# EAGLE library part SIM800L (library library)
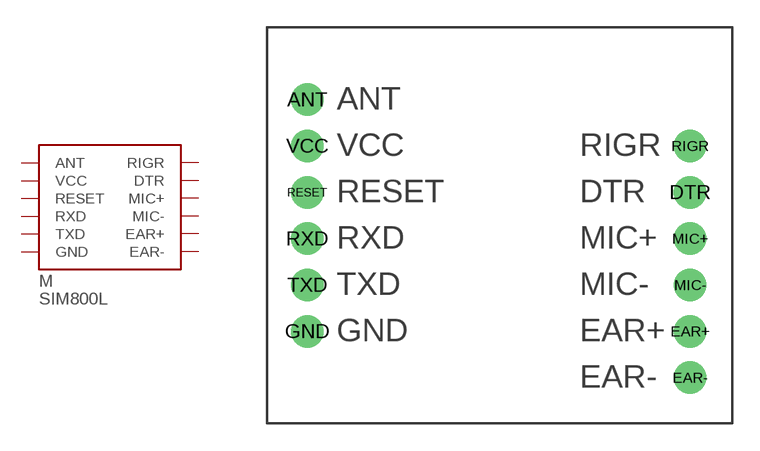
[diagram p0: symbol with the pads of SIM800L; footprint SIM800L]

Designator prefix M

## SIM800L  [SIM800L]
ANT  ANT
DTR  DTR
EAR+  EAR+
EAR-  EAR-
GND  GND
MIC+  MIC+
MIC-  MIC-
RESET  RESET
RIGR  RIGR
RXD  RXD
TXD  TXD
VCC  VCC

## Footprint SIM800L (pad centres in mm)
drill 0.8 pad 1.778: ANT -10.5,7.54; DTR 10.5,2.46; EAR+ 10.5,-5.16; EAR- 10.5,-7.7; GND -10.5,-5.16; MIC+ 10.5,-0.08; MIC- 10.5,-2.62; RESET -10.5,2.46; RIGR 10.5,5; RXD -10.5,-0.08; TXD -10.5,-2.62; VCC -10.5,5